# Altium footprint library IC-Packages.PcbLib: 22 footprints (part 1 of 2)
Each footprint in its own frame and in the unit in brackets; x right, y up, seen from the top. Pads: shape width x height; smd on the part's side, far side on the other; paste and mask are expansions set on the pad; w line width, h text height; cw(c..) or ccw(c..) is an arc to the next point about the centre after c.
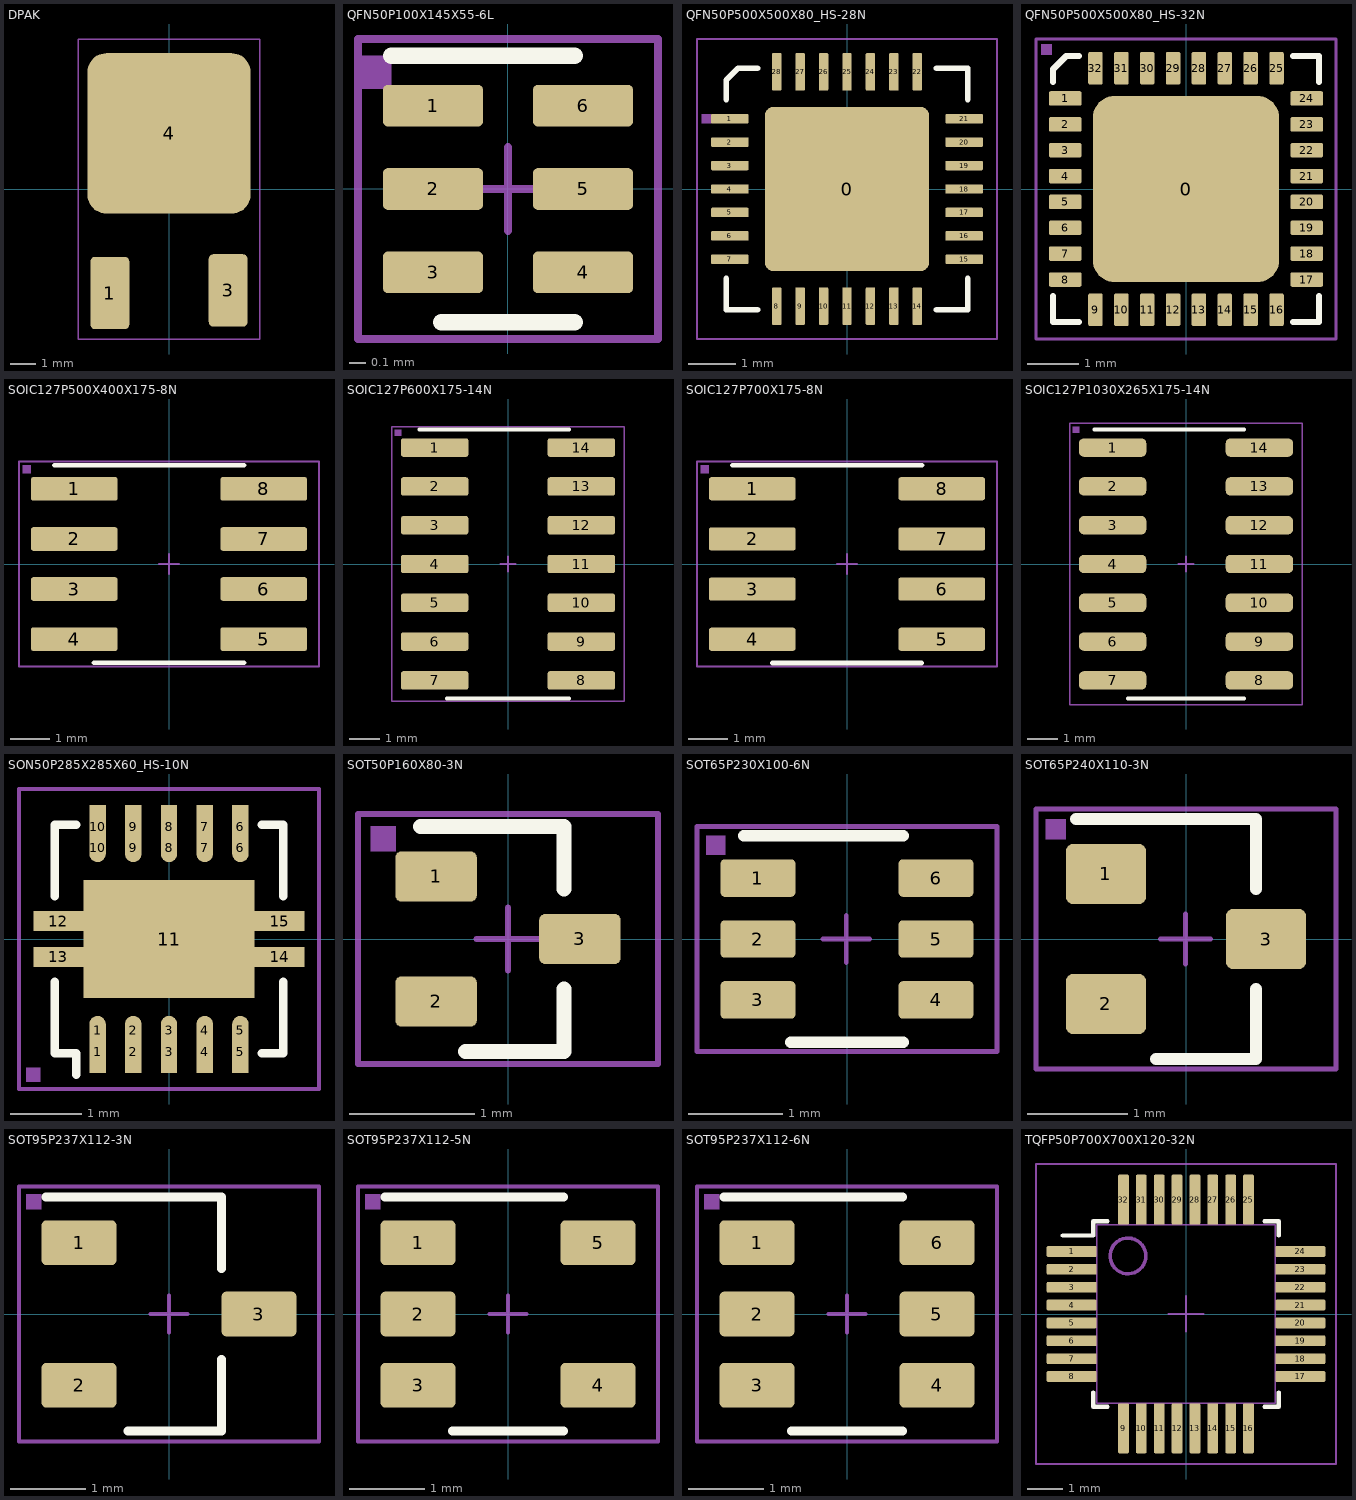
[diagram p0: the footprints below, top view; thin cyan lines are the x and y axes]

## DPAK [mm]
pads (3):
  rrect23% 1.5x2.8 smd: 1(-2.286,-4.022) 3(2.286,-3.922)
  rrect23% 6.3x6.2 smd: 4(0,2.15)
15. Courtyard TOP:
  lines w0.05: -0.25,0 0.25,0 ; 0,-0.25 0,0.25 ; -3.5,-5.8 3.5,-5.8 3.5,5.8 -3.5,5.8 -3.5,-5.8
18. Assembly TOP:
  lines w0.05: -3.5,-5.8 3.5,-5.8 3.5,5.8 -3.5,5.8 -3.5,-5.8
  text "IC200" at -2.2,-0.4 h1
3D body: height 2.3, standoff -0.12, extent -3.27,-5.011 3.27,4.928

## QFN50P100X145X55-6L [mm] "uQFN-6L"
height 0.55
pads (6):
  rrect23% 0.6x0.25 smd: 1(-0.45,0.5) 2(-0.45,0) 3(-0.45,-0.5) 4(0.45,-0.5) 5(0.45,0) 6(0.45,0.5)
Top Overlay:
  lines w0.1: -0.7,0.8 0.4,0.8 ; -0.4,-0.8 0.4,-0.8
15. Courtyard TOP:
  lines w0.05: -0.25,0 0.25,0 ; 0,-0.25 0,0.25 ; -0.9,-0.9 -0.9,0.9 0.9,0.9 0.9,-0.9 -0.9,-0.9
18. Assembly TOP:
  region: -0.9,0.8 -0.7,0.8 -0.7,0.6 -0.9,0.6
  lines w0.05: -0.9,-0.9 -0.9,0.9 0.9,0.9 0.9,-0.9 -0.9,-0.9
  text ".designator" at -0.8,-0.2 h0.5
3D body: height 0.55, standoff 0.02, extent -0.5,-0.725 0.5,0.725

## QFN50P500X500X80_HS-28N [mm] "QFN, 28-Leads, Body 5,00x5,00mm, Pitch 0,50mm, Thermal Pad 3,50x3,50mm, IPC Medium Density"
height 0.8
pads (29):
  rrect10% 3.5x3.5 smd: 0(0,0)
  rrect23% 0.8x0.2 smd mask+0.1: 1(-2.5,1.5) 2(-2.5,1) 3(-2.5,0.5) 4(-2.5,0) 5(-2.5,-0.5) 6(-2.5,-1) 7(-2.5,-1.5) 15(2.5,-1.5) 16(2.5,-1) 17(2.5,-0.5) 18(2.5,0) 19(2.5,0.5) 20(2.5,1) 21(2.5,1.5)
  rrect23% 0.2x0.8 smd mask+0.1: 8(-1.5,-2.5) 9(-1,-2.5) 10(-0.5,-2.5) 11(0,-2.5) 12(0.5,-2.5) 13(1,-2.5) 14(1.5,-2.5) 22(1.5,2.5) 23(1,2.5) 24(0.5,2.5) 25(0,2.5) 26(-0.5,2.5) 27(-1,2.5) 28(-1.5,2.5)
Top Overlay:
  lines w0.12: -2.575,-1.91 -2.575,-2.575 -1.91,-2.575 ; -2.575,1.91 -2.575,2.325 -2.325,2.575 -1.91,2.575 ; 1.91,-2.575 2.575,-2.575 2.575,-1.91 ; 1.91,2.575 2.575,2.575 2.575,1.91
15. Courtyard TOP:
  lines w0.05: -0.25,0 0.25,0 ; 0,-0.25 0,0.25 ; -3.2,-3.2 -3.2,3.2 3.2,3.2 3.2,-3.2 -3.2,-3.2
18. Assembly TOP:
  region: -3.1,1.6 -2.9,1.6 -2.9,1.4 -3.1,1.4
  lines w0.05: -3.2,-3.2 3.2,-3.2 3.2,3.2 -3.2,3.2 -3.2,-3.2
  text ".designator" at -2.8,-0.4 h1.2
3D body: height 1, standoff 0, extent -2.5,-2.5 2.5,2.5

## QFN50P500X500X80_HS-32N [mm]
height 0.8
pads (33):
  rrect23% 3.6x3.6 smd: 0(0,0)
  rrect23% 0.63x0.28 smd: 1(-2.335,1.75) 2(-2.335,1.25) 3(-2.335,0.75) 4(-2.335,0.25) 5(-2.335,-0.25) 6(-2.335,-0.75) 7(-2.335,-1.25) 8(-2.335,-1.75) 17(2.335,-1.75) 18(2.335,-1.25) 19(2.335,-0.75) 20(2.335,-0.25) 21(2.335,0.25) 22(2.335,0.75) 23(2.335,1.25) 24(2.335,1.75)
  rrect23% 0.28x0.63 smd: 9(-1.75,-2.335) 10(-1.25,-2.335) 11(-0.75,-2.335) 12(-0.25,-2.335) 13(0.25,-2.335) 14(0.75,-2.335) 15(1.25,-2.335) 16(1.75,-2.335) 25(1.75,2.335) 26(1.25,2.335) 27(0.75,2.335) 28(0.25,2.335) 29(-0.25,2.335) 30(-0.75,2.335) 31(-1.25,2.335) 32(-1.75,2.335)
Top Overlay:
  lines w0.12: -2.57,-2.07 -2.57,-2.57 -2.07,-2.57 ; -2.57,2.07 -2.57,2.32 -2.32,2.57 -2.07,2.57 ; 2.07,-2.57 2.57,-2.57 2.57,-2.07 ; 2.07,2.57 2.57,2.57 2.57,2.07
15. Courtyard TOP:
  lines w0.05: -0.25,0 0.25,0 ; 0,-0.25 0,0.25 ; -2.9,-2.9 -2.9,2.9 2.9,2.9 2.9,-2.9 -2.9,-2.9
18. Assembly TOP:
  region: -2.8,2.8 -2.6,2.8 -2.6,2.6 -2.8,2.6
  lines w0.05: -2.9,-2.9 -2.9,2.9 2.9,2.9 2.9,-2.9 -2.9,-2.9
  text ".designator" at -2.3,-0.5 h1
3D body: height 0.8, standoff 0, extent -2.51,-2.51 2.51,2.51

## SOIC127P500X400X175-8N [mm] "SOIC, 8-Leads, Body 5,0x4,0mm (max), Pitch 1,27mm, IPC Medium Density"
height 1.75
pads (8):
  rrect23% 2.2x0.6 smd: 1(-2.4,1.905) 2(-2.4,0.635) 3(-2.4,-0.635) 4(-2.4,-1.905) 5(2.4,-1.905) 6(2.4,-0.635) 7(2.4,0.635) 8(2.4,1.905)
Top Overlay:
  lines w0.12: -2.9,2.5 1.9,2.5 ; -1.9,-2.5 1.9,-2.5
15. Courtyard TOP:
  lines w0.05: -0.25,0 0.25,0 ; 0,-0.25 0,0.25 ; -3.8,-2.6 3.8,-2.6 3.8,2.6 -3.8,2.6 -3.8,-2.6
18. Assembly TOP:
  region: -3.7,2.5 -3.5,2.5 -3.5,2.3 -3.7,2.3
  lines w0.05: -3.8,-2.6 3.8,-2.6 3.8,2.6 -3.8,2.6 -3.8,-2.6
  text ".designator" at -3.3,-0.7 h1.5
3D body: height 1.75, standoff 0, extent -3,-2.45 3,2.45

## SOIC127P600X175-14N [mm]
height 1.75
pads (14):
  rrect23% 2.2x0.6 smd: 1(-2.4,3.81) 2(-2.4,2.54) 3(-2.4,1.27) 4(-2.4,0) 5(-2.4,-1.27) 6(-2.4,-2.54) 7(-2.4,-3.81) 8(2.4,-3.81) 9(2.4,-2.54) 10(2.4,-1.27) 11(2.4,0) 12(2.4,1.27) 13(2.4,2.54) 14(2.4,3.81)
Top Overlay:
  lines w0.12: -2.9,4.4 2,4.4 ; -2,-4.4 2,-4.4
15. Courtyard TOP:
  lines w0.05: -0.25,0 0.25,0 ; 0,-0.25 0,0.25 ; -3.8,-4.5 3.8,-4.5 3.8,4.5 -3.8,4.5 -3.8,-4.5
18. Assembly TOP:
  region: -3.7,4.4 -3.5,4.4 -3.5,4.2 -3.7,4.2
  lines w0.05: -3.8,-4.5 -3.8,4.5 3.8,4.5 3.8,-4.5 -3.8,-4.5
  text ".designator" at -2.8,-0.5 h1.2
3D body: height 1.75, standoff 0, extent -3,-4.375 3,4.375

## SOIC127P700X175-8N [mm] "SOIC8"
height 1.75
pads (8):
  rrect23% 2.2x0.59 smd: 1(-2.4,1.905) 2(-2.4,0.635) 3(-2.4,-0.635) 4(-2.4,-1.905) 5(2.4,-1.905) 6(2.4,-0.635) 7(2.4,0.635) 8(2.4,1.905)
Top Overlay:
  lines w0.12: -2.9,2.5 1.9,2.5 ; -1.89,-2.51 1.89,-2.51
15. Courtyard TOP:
  lines w0.05: -0.25,0 0.25,0 ; 0,-0.25 0,0.25 ; -3.8,-2.6 -3.8,2.6 3.8,2.6 3.8,-2.6 -3.8,-2.6
18. Assembly TOP:
  region: -3.7,2.5 -3.5,2.5 -3.5,2.3 -3.7,2.3
  lines w0.05: -3.8,-2.6 -3.8,2.6 3.8,2.6 3.8,-2.6 -3.8,-2.6
  text ".designator" at -2.7,-0.6 h1.2
3D body: height 1.75, standoff 0, extent -3,-2.45 3,2.45

## SOIC127P1030X265X175-14N [mm]
height 1.75
pads (14):
  rrect50% 2.2x0.6 smd: 1(-2.4,3.81) 2(-2.4,2.54) 3(-2.4,1.27) 4(-2.4,0) 5(-2.4,-1.27) 6(-2.4,-2.54) 7(-2.4,-3.81) 8(2.4,-3.81) 9(2.4,-2.54) 10(2.4,-1.27) 11(2.4,0) 12(2.4,1.27) 13(2.4,2.54) 14(2.4,3.81)
Top Overlay:
  lines w0.12: -3,4.4 1.9,4.4 ; -1.9,-4.4 1.9,-4.4
15. Courtyard TOP:
  lines w0.05: -0.25,0 0.25,0 ; 0,-0.25 0,0.25 ; -3.8,-4.6 -3.8,4.6 3.8,4.6 3.8,-4.6 -3.8,-4.6
18. Assembly TOP:
  region: -3.7,4.5 -3.5,4.5 -3.5,4.3 -3.7,4.3
  lines w0.05: -3.8,-4.6 3.8,-4.6 3.8,4.6 -3.8,4.6 -3.8,-4.6
  text ".designator" at -3.3,-0.6 h1.5
3D body: height 1.7, standoff 0, extent -3,-4.4 3,4.4

## SON50P285X285X60_HS-10N [mm]
pads (25):
  rect 0.23x0.6 smd: 1(-1,-1.575) 2(-0.5,-1.575) 3(0,-1.575) 4(0.5,-1.575) 5(1,-1.575) 6(1,1.575) 7(0.5,1.575) 8(0,1.575) 9(-0.5,1.575) 10(-1,1.575)
  rrect100% 0.23x0.4 smd: 1(-1,-1.275) 2(-0.5,-1.275) 3(0,-1.275) 4(0.5,-1.275) 5(1,-1.275) 6(1,1.275) 7(0.5,1.275) 8(0,1.275) 9(-0.5,1.275) 10(-1,1.275)
  rect 2.4x1.65 smd: 11(0,0)
  rect 0.7x0.28 smd: 12(-1.55,0.25) 13(-1.55,-0.25) 14(1.55,-0.25) 15(1.55,0.25)
Top Overlay:
  lines w0.12: -1.6,-0.6 -1.6,-1.6 -1.3,-1.6 -1.3,-1.9 ; -1.6,0.6 -1.6,1.6 -1.3,1.6 ; 1.3,-1.6 1.6,-1.6 1.6,-0.6 ; 1.3,1.6 1.6,1.6 1.6,0.6
15. Courtyard TOP:
  lines w0.05: -0.25,0 0.25,0 ; 0,-0.25 0,0.25 ; -2.1,-2.1 2.1,-2.1 2.1,2.1 -2.1,2.1 -2.1,-2.1
18. Assembly TOP:
  region: -2,-2 -2,-1.8 -1.8,-1.8 -1.8,-2
  lines w0.05: -2.1,-2.1 -2.1,2.1 2.1,2.1 2.1,-2.1 -2.1,-2.1
  text ".designator" at -1.6,-0.3 h0.7
3D body: height 0.8, standoff 0, extent -1.5,-1.5 1.5,1.5

## SOT50P160X80-3N [mm] "JDEC SC-75"
height 0.8
pads (3):
  rrect23% 0.65x0.4 smd mask+0.1: 1(-0.575,0.5) 2(-0.575,-0.5) 3(0.575,0)
Top Overlay:
  lines w0.12: -0.7,0.9 0.45,0.9 0.45,0.4 ; -0.34,-0.9 0.45,-0.9 0.45,-0.4
15. Courtyard TOP:
  lines w0.05: -0.25,0 0.25,0 ; 0,-0.25 0,0.25 ; -1.2,-1 1.2,-1 1.2,1 -1.2,1 -1.2,-1
18. Assembly TOP:
  region: -1.1,0.9 -0.9,0.9 -0.9,0.7 -1.1,0.7
  lines w0.05: -1.2,-1 -1.2,1 1.2,1 1.2,-1 -1.2,-1
  text "Q200" at -0.925,-0.25 h0.5
3D body: height 0.8, standoff 0, extent -0.8,-0.8 0.8,0.8

## SOT65P230X100-6N [mm] "SOT363"
height 1
pads (6):
  rrect23% 0.8x0.4 smd: 1(-0.95,0.65) 2(-0.95,0) 3(-0.95,-0.65) 4(0.95,-0.65) 5(0.95,0) 6(0.95,0.65)
Top Overlay:
  lines w0.12: -1.1,1.1 0.6,1.1 ; -0.6,-1.1 0.6,-1.1
15. Courtyard TOP:
  lines w0.05: -0.257,0 0.243,0 ; -0.007,-0.25 -0.007,0.25 ; -1.6,-1.2 1.6,-1.2 1.6,1.2 -1.6,1.2 -1.6,-1.2
18. Assembly TOP:
  region: -1.5,1.1 -1.3,1.1 -1.3,0.9 -1.5,0.9
  lines w0.05: -1.6,-1.2 -1.6,1.2 1.6,1.2 1.6,-1.2 -1.6,-1.2
  text ".designator" at -1.2,-0.3 h0.7
3D body: height 1, standoff 0, extent -1.15,-1.05 1.15,1.05

## SOT65P240X110-3N [mm] "JDEC SC70, SOT-323"
height 1.1
pads (3):
  rrect23% 0.8x0.6 smd mask+0.1: 1(-0.8,0.65) 2(-0.8,-0.65) 3(0.8,0)
Top Overlay:
  lines w0.12: -1.1,1.2 0.7,1.2 0.7,0.5 ; -0.3,-1.2 0.7,-1.2 0.7,-0.5
15. Courtyard TOP:
  lines w0.05: -0.257,0 0.243,0 ; -0.007,-0.25 -0.007,0.25 ; -1.5,-1.3 -1.5,1.3 1.5,1.3 1.5,-1.3 -1.5,-1.3
18. Assembly TOP:
  region: -1.4,1.2 -1.2,1.2 -1.2,1 -1.4,1
  lines w0.05: -1.5,-1.3 1.5,-1.3 1.5,1.3 -1.5,1.3 -1.5,-1.3
  text ".designator" at -1.3,-0.3 h0.7
3D body: height 1.1, standoff 0, extent -1.123,-1.1 1.123,1.1

## SOT95P237X112-3N [mm]
pads (3):
  rrect23% 1x0.6 smd mask+0.1: 1(-1.2,0.95) 2(-1.2,-0.95) 3(1.2,0)
Top Overlay:
  lines w0.12: -1.64,1.56 0.7,1.56 0.7,0.61 ; -0.55,-1.56 0.7,-1.56 0.7,-0.61
15. Courtyard TOP:
  lines w0.05: -0.25,0 0.25,0 ; 0,-0.25 0,0.25 ; -2,-1.7 2,-1.7 2,1.7 -2,1.7 -2,-1.7
18. Assembly TOP:
  region: -1.9,1.6 -1.7,1.6 -1.7,1.4 -1.9,1.4
  lines w0.05: -2,-1.7 -2,1.7 2,1.7 2,-1.7 -2,-1.7
  text ".designator" at -1.6,-0.3 h0.7
3D body: height 1.3, standoff 0, extent -1.393,-1.45 1.407,1.45

## SOT95P237X112-5N [mm]
height 1.1
pads (5):
  rrect23% 1x0.6 smd mask+0.1: 1(-1.2,0.95) 2(-1.2,0) 3(-1.2,-0.95) 4(1.2,-0.95) 5(1.2,0.95)
Top Overlay:
  lines w0.12: -1.64,1.56 0.74,1.56 ; -0.74,-1.56 0.74,-1.56
15. Courtyard TOP:
  lines w0.05: -0.25,0 0.25,0 ; 0,-0.25 0,0.25 ; -2,-1.7 -2,1.7 2,1.7 2,-1.7 -2,-1.7
18. Assembly TOP:
  region: -1.9,1.6 -1.7,1.6 -1.7,1.4 -1.9,1.4
  lines w0.05: -2,-1.7 2,-1.7 2,1.7 -2,1.7 -2,-1.7
  text ".designator" at -1.6,-0.3 h0.7
3D body: height 1.45, standoff 0, extent -1.4,-1.45 1.4,1.45

## SOT95P237X112-6N [mm]
height 1.1
pads (6):
  rrect23% 1x0.6 smd mask+0.1: 1(-1.2,0.95) 2(-1.2,0) 3(-1.2,-0.95) 4(1.2,-0.95) 5(1.2,0) 6(1.2,0.95)
Top Overlay:
  lines w0.12: -1.64,1.56 0.74,1.56 ; -0.74,-1.56 0.74,-1.56
15. Courtyard TOP:
  lines w0.05: -0.25,0 0.25,0 ; 0,-0.25 0,0.25 ; -2,-1.7 2,-1.7 2,1.7 -2,1.7 -2,-1.7
18. Assembly TOP:
  region: -1.9,1.6 -1.7,1.6 -1.7,1.4 -1.9,1.4
  lines w0.05: -2,-1.7 -2,1.7 2,1.7 2,-1.7 -2,-1.7
  text ".designator" at -1.6,-0.3 h0.7
3D body: height 1.45, standoff 0, extent -1.4,-1.45 1.4,1.45

## TQFP50P700X700X120-32N [mm] "TSQFP, 32-Leads, Body 5,00x5,00mm, Pitch 0,50mm, IPC Medium Density"
height 1.2
pads (32):
  rrect23% 1.4x0.3 smd: 1(-3.2,1.75) 2(-3.2,1.25) 3(-3.2,0.75) 4(-3.2,0.25) 5(-3.2,-0.25) 6(-3.2,-0.75) 7(-3.2,-1.25) 8(-3.2,-1.75) 17(3.2,-1.75) 18(3.2,-1.25) 19(3.2,-0.75) 20(3.2,-0.25) 21(3.2,0.25) 22(3.2,0.75) 23(3.2,1.25) 24(3.2,1.75)
  rrect23% 0.3x1.4 smd: 9(-1.75,-3.2) 10(-1.25,-3.2) 11(-0.75,-3.2) 12(-0.25,-3.2) 13(0.25,-3.2) 14(0.75,-3.2) 15(1.25,-3.2) 16(1.75,-3.2) 25(1.75,3.2) 26(1.25,3.2) 27(0.75,3.2) 28(0.25,3.2) 29(-0.25,3.2) 30(-0.75,3.2) 31(-1.25,3.2) 32(-1.75,3.2)
Top Overlay:
  lines w0.12: -3.45,2.2 -2.6,2.2 -2.6,2.6 -2.2,2.6 ; -2.6,-2.2 -2.6,-2.6 -2.2,-2.6 ; 2.2,-2.6 2.6,-2.6 2.6,-2.2 ; 2.2,2.6 2.6,2.6 2.6,2.2
15. Courtyard TOP:
  lines w0.05: -0.5,0 0.5,0 ; 0,-0.5 0,0.5 ; -4.2,-4.2 4.2,-4.2 4.2,4.2 -4.2,4.2 -4.2,-4.2
18. Assembly TOP:
  circle w0.1: c-1.625,1.625 r0.5
  lines w0.05: -2.5,-2.5 2.5,-2.5 2.5,2.5 -2.5,2.5 -2.5,-2.5
  text ".designator" at -2.2,-0.4 h1
3D body: height 1.2, standoff -0.03, extent -3.5,-3.5 3.5,3.5